# Altium schematic symbol library CY8C414X_TQFP48.SchLib: 1 symbol
Pins are listed as number, name and electrical type; pins without a type are passive.

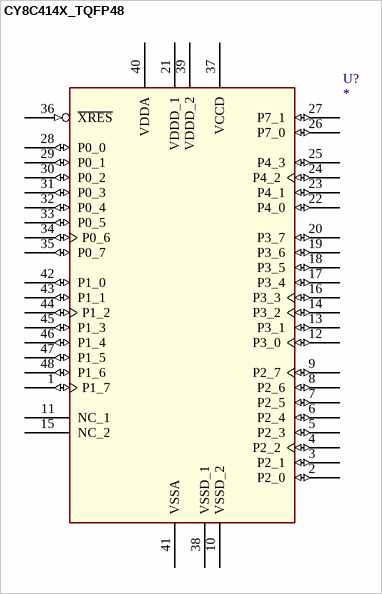
[diagram p0: symbol CY8C414X_TQFP48]

## CY8C414X_TQFP48
designator U?
pins: 1 P1_7 (io), 2 P2_0 (io), 3 P2_1 (io), 4 P2_2 (io), 5 P2_3 (io), 6 P2_4 (io), 7 P2_5 (io), 8 P2_6 (io), 9 P2_7 (io), 10 VSSD_2 (power), 11 NC_1, 12 P3_0 (io), 13 P3_1 (io), 14 P3_2 (io), 15 NC_2, 16 P3_3 (io), 17 P3_4 (io), 18 P3_5 (io), 19 P3_6 (io), 20 P3_7 (io), 21 VDDD_1 (power), 22 P4_0 (io), 23 P4_1 (io), 24 P4_2 (io), 25 P4_3 (io), 26 P7_0 (io), 27 P7_1 (io), 28 P0_0 (io), 29 P0_1 (io), 30 P0_2 (io), 31 P0_3 (io), 32 P0_4 (io), 33 P0_5 (io), 34 P0_6 (io), 35 P0_7 (io), 36 ~{XRES} (in), 37 VCCD (power), 38 VSSD_1 (power), 39 VDDD_2 (power), 40 VDDA (power), 41 VSSA (power), 42 P1_0 (io), 43 P1_1 (io), 44 P1_2 (io), 45 P1_3 (io), 46 P1_4 (io), 47 P1_5 (io), 48 P1_6 (io)